# Altium footprint library KEA底座.PcbLib: 1 footprints
Each footprint in its own frame and in the unit in brackets; x right, y up, seen from the top. Pads: shape width x height; smd on the part's side, far side on the other; paste and mask are expansions set on the pad; w line width, h text height; cw(c..) or ccw(c..) is an arc to the next point about the centre after c.
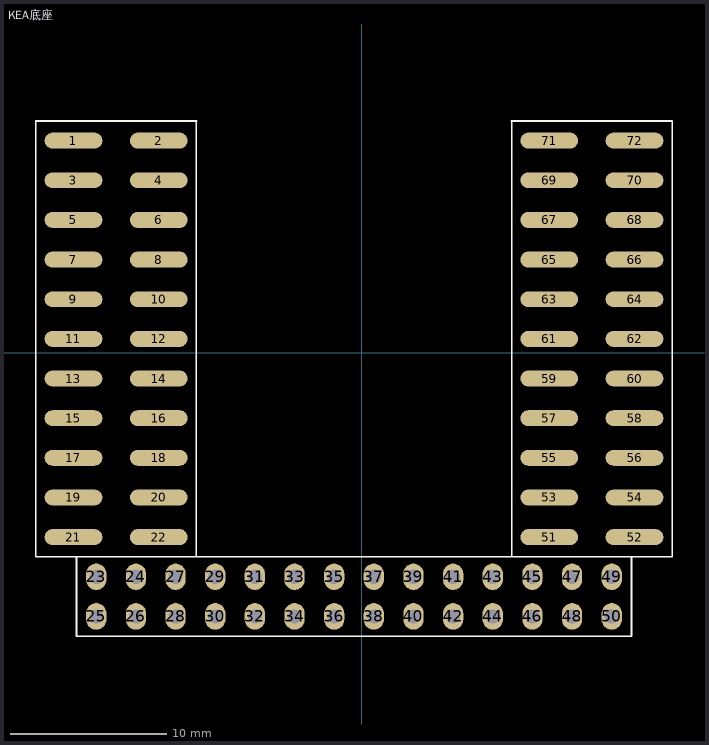
[diagram p0: the footprint, top view; thin cyan lines are the x and y axes]

## KEA底座 [mm]
pads (76):
  oval 3.7x1.02 smd: 1(-18.479,13.589) 2(-13.018,13.589) 3(-18.479,11.049) 4(-13.018,11.049) 5(-18.479,8.509) 6(-13.018,8.509) 7(-18.479,5.969) 8(-13.018,5.969) 9(-18.479,3.429) 10(-13.018,3.429) 11(-18.479,0.889) 12(-13.018,0.889) 13(-18.479,-1.651) 14(-13.018,-1.651) 15(-18.479,-4.191) 16(-13.018,-4.191) 17(-18.479,-6.731) 18(-13.018,-6.731) 19(-18.479,-9.271) 20(-13.018,-9.271) 21(-18.479,-11.811) 22(-13.018,-11.811) 51(12.002,-11.811) 52(17.462,-11.811) 53(12.002,-9.271) 54(17.462,-9.271) 55(12.002,-6.731) 56(17.462,-6.731) 57(12.002,-4.191) 58(17.462,-4.191) 59(12.002,-1.651) 60(17.462,-1.651) 61(12.002,0.889) 62(17.462,0.889) 63(12.002,3.429) 64(17.462,3.429) 65(12.002,5.969) 66(17.462,5.969) 67(12.002,8.509) 68(17.462,8.509) 69(12.002,11.049) 70(17.462,11.049) 71(12.002,13.589) 72(17.462,13.589)
  round 0 on Mech1: 1(-11.725,11.567) 1(-11.725,14.107) 1(18.755,11.567) 1(18.755,14.107)
  oval 1.3x1.7 hole 0.9: 23(-17.018,-14.351) 24(-14.478,-14.351) 25(-17.018,-16.891) 26(-14.478,-16.891) 27(-11.938,-14.351) 28(-11.938,-16.891) 29(-9.398,-14.351) 30(-9.398,-16.891) 31(-6.858,-14.351) 32(-6.858,-16.891) 33(-4.318,-14.351) 34(-4.318,-16.891) 35(-1.778,-14.351) 36(-1.778,-16.891) 37(0.762,-14.351) 38(0.762,-16.891) 39(3.302,-14.351) 40(3.302,-16.891) 41(5.842,-14.351) 42(5.842,-16.891) 43(8.382,-14.351) 44(8.382,-16.891) 45(10.922,-14.351) 46(10.922,-16.891) 47(13.462,-14.351) 48(13.462,-16.891) 49(16.002,-14.351) 50(16.002,-16.891)
Top Overlay:
  lines w0.102: -20.892,14.859 -20.892,12.192 -20.892,-13.081 -10.604,-13.081 -10.604,12.192 -10.604,14.859 ; 9.588,14.859 9.588,12.192 9.588,-13.081 19.875,-13.081 19.875,12.192 19.875,14.859 ; -18.288,-18.161 -18.288,-13.081 17.272,-13.081 17.272,-18.161 -18.288,-18.161
  lines w0.127: -20.892,14.859 -10.604,14.859 ; 9.588,14.859 19.875,14.859
3D body: height 4.6, standoff 0, extent -18.288,-18.161 17.272,-13.081
3D body: height 4.6, standoff 0, extent -18.288,-13.081 -13.208,14.859
3D body: height 4.6, standoff 0, extent 12.192,-13.081 17.272,14.859